# Altium footprint library Relay_THT.PcbLib: 78 footprints (part 3 of 5)
Each footprint in its own frame and in the unit in brackets; x right, y up, seen from the top. Pads: shape width x height; smd on the part's side, far side on the other; paste and mask are expansions set on the pad; w line width, h text height; cw(c..) or ccw(c..) is an arc to the next point about the centre after c.
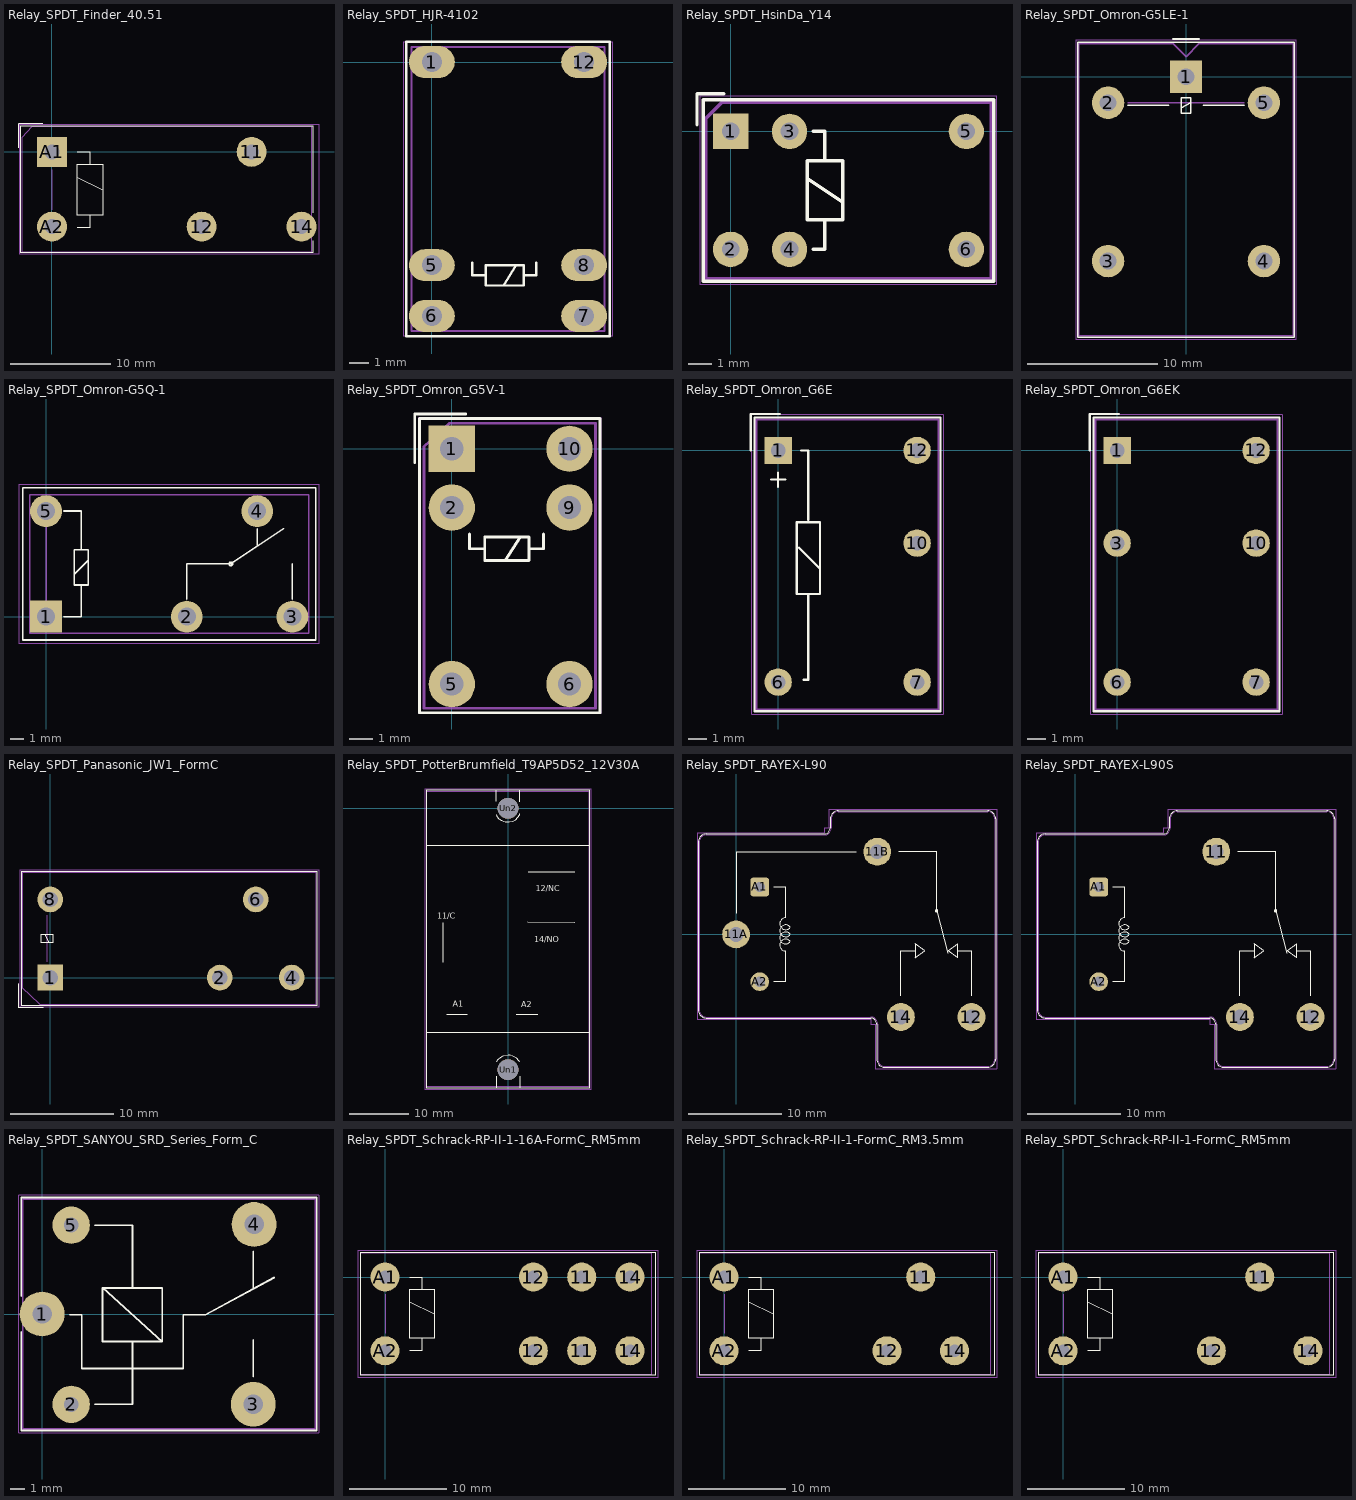
[diagram p2: the footprints below, top view; thin cyan lines are the x and y axes]

## Relay_SPDT_Finder_40.51 [mm]
pads (5):
  round 3 hole 1.5: 11(20,0) 12(15,-7.5) 14(25,-7.5) A2(0,-7.5)
  rect 3x3 hole 1.5: A1(0,0)
F.SilkS:
  lines w0.12: -3.3,0.4 -3.3,2.8 -0.9,2.8 ; 2.54,-7.62 3.81,-7.62 3.81,-6.35 ; 2.54,-2.54 5.08,-3.81 ; 2.54,0 3.81,0 3.81,-1.27 ; 26.1,-8.9 26.1,-10.1 -3.1,-10.1 -3.1,2.6 26.1,2.6 26.1,-6.1 ; 3.81,-1.27 2.54,-1.27 2.54,-6.35 5.08,-6.35 5.08,-1.27 3.81,-1.27
F.CrtYd:
  lines w0.05: -3.25,-10.25 -3.25,2.75 26.75,2.75 26.75,-10.25 -3.25,-10.25
F.Fab:
  lines w0.12: 0,-5.8 0,-1.8 ; -3,-10 26,-10 26,2.5 -2,2.5 -3,1.4 -3,-10
  text "'.Designator'" at 8.018,-4.65 h1

## Relay_SPDT_HJR-4102 [mm]
pads (6):
  rrect100% 2.3x1.6 hole 1: 1(0,0) 5(0,-10.16) 6(0,-12.7) 7(7.62,-12.7) 8(7.62,-10.16) 12(7.62,0)
F.SilkS:
  lines w0.12: 2.032,-10.033 2.032,-10.668 2.692,-10.668 ; 3.581,-11.176 4.216,-10.16 ; 4.597,-10.668 5.232,-10.668 5.232,-10.033 ; -1.27,-13.716 8.89,-13.716 8.89,1.016 -1.27,1.016 -1.27,-13.716 ; 2.692,-11.176 4.597,-11.176 4.597,-10.16 2.692,-10.16 2.692,-11.176
F.CrtYd:
  lines w0.05: -1.4,-13.71 9.02,-13.71 9.02,1.01 -1.4,1.01 -1.4,-13.71
F.Fab:
  lines w0.1: -1.016,-13.462 -1.016,0.762 8.636,0.762 8.636,-13.462 -1.016,-13.462
  text "'.Designator'" at -0.237,-7.19 h1

## Relay_SPDT_HsinDa_Y14 [mil]
pads (6):
  rect 60x60 hole 30: 1(0,0)
  round 60 hole 30: 2(0,-200) 3(100,0) 4(100,-200) 5(400,0) 6(400,-200)
F.SilkS:
  lines w5.91: -57,11.5 -57,64 -12,64 ; 130,-80 190,-120 ; 140,-200 160,-200 160,-150 ; 140,0 160,0 160,-50 ; -46.46,-253.94 -46.46,53.94 446.46,53.94 446.46,-253.94 -46.46,-253.94 ; 130,-150 190,-150 190,-50 130,-50 130,-150
F.CrtYd:
  lines w1.97: -51.97,-259.45 451.97,-259.45 451.97,59.45 -51.97,59.45 -51.97,-259.45
F.Fab:
  lines w5.91: -42.5,21.5 -15,49 ; -42.13,21.5 -42.13,-249.61 442.13,-249.61 442.13,49.61 -15,49.61
  text "'.Designator'" at 150.68,-133.08 h39.37

## Relay_SPDT_Omron-G5LE-1 [mm]
pads (5):
  rect 2.5x2.5 hole 1.3: 1(0,0)
  rrect100% 2.5x2.5 hole 1.3: 2(-6,-2) 3(-6,-14.2) 4(6,-14.2) 5(6,-2)
F.SilkS:
  lines w0.12: -4.5,-2.2 -1.35,-2.2 ; -1,2.91 1,2.91 ; -0.35,-2.4 0.35,-2 ; 1.35,-2.2 4.5,-2.2 ; -8.35,-20.05 8.35,-20.05 8.35,2.65 -8.35,2.65 -8.35,-20.05 ; -0.35,-2.8 -0.35,-1.6 0.35,-1.6 0.35,-2.8 -0.35,-2.8
F.CrtYd:
  lines w0.05: -8.5,-20.2 -8.5,2.8 8.5,2.8 8.5,-20.2 -8.5,-20.2
F.Fab:
  lines w0.1: -4.5,-2 4.5,-2 ; -8.25,-19.95 8.25,-19.95 8.25,2.55 1,2.55 0,1.55 -1,2.55 -8.25,2.55 -8.25,-19.95
  text "'.Designator'" at -4.047,-9.54 h1

## Relay_SPDT_Omron-G5Q-1 [mm]
pads (5):
  rect 2.3x2.3 hole 1.3: 1(0,0)
  round 2.3 hole 1.3: 2(10.16,0) 3(17.78,0) 4(15.24,7.62) 5(0,7.62)
F.SilkS:
  circle w0.12: c13.335,3.81 r0.127
  lines w0.12: 1.27,0 2.54,0 2.54,2.29 ; 1.27,7.62 2.54,7.62 2.54,4.83 ; 2.03,3.05 3.05,4.06 ; 10.16,1.27 10.16,3.81 13.335,3.81 17.145,6.35 ; 15.24,5.08 15.24,6.35 ; 17.78,1.27 17.78,3.81 ; 2.54,2.29 3.05,2.29 3.05,4.83 2.54,4.83 ; 2.54,2.29 2.03,2.29 2.03,4.83 2.54,4.83 ; -1.68,-1.69 -1.68,9.31 19.46,9.31 19.46,-1.69 -1.68,-1.69
F.CrtYd:
  lines w0.05: -1.95,-1.95 -1.95,9.55 19.7,9.55 19.7,-1.95 -1.95,-1.95
F.Fab:
  lines w0.1: 0,1 0,6.5 ; -1.18,-1.19 -1.18,8.81 18.96,8.81 18.96,-1.19 -1.18,-1.19
  text "'.Designator'" at 4.843,2.97 h1

## Relay_SPDT_Omron_G5V-1 [mm]
pads (6):
  rect 2x2 hole 1: 1(0,0)
  round 2 hole 1: 2(0,-2.54) 5(0,-10.16) 6(5.08,-10.16) 9(5.08,-2.54) 10(5.08,0)
F.SilkS:
  lines w0.12: -1.6,-0.6 -1.6,1.5 0.6,1.5 ; 0.762,-3.683 0.762,-4.318 1.422,-4.318 ; 2.311,-4.826 2.946,-3.81 ; 3.327,-4.318 3.962,-4.318 3.962,-3.683 ; -1.4,-11.4 6.4,-11.4 6.4,1.3 -1.4,1.3 -1.4,-11.4 ; 1.422,-4.826 1.422,-3.81 3.327,-3.81 3.327,-4.826 1.422,-4.826
F.CrtYd:
  lines w0.05: -1.45,-11.45 6.45,-11.45 6.45,1.35 -1.45,1.35 -1.45,-11.45
F.Fab:
  lines w0.12: -1.2,-11.2 -1.2,0.1 -0.1,1.1 6.2,1.1 6.2,-11.2 -1.2,-11.2
  text "'.Designator'" at -1.507,-7.19 h1

## Relay_SPDT_Omron_G6E [mil]
pads (5):
  rect 59.1x59.1 hole 31.5: 1(0,0)
  round 59.1 hole 31.5: 6(0,-500) 7(300,-500) 10(300,-200) 12(300,0)
F.SilkS:
  lines w4.72: -59.06,0 -59.06,78.74 3.94,78.74 ; -15.75,-62.99 15.75,-62.99 ; 0,-78.74 0,-47.24 ; 45,-210 90,-255 ; 50,0 65,0 65,-150 ; 55,-495 65,-495 65,-310 ; -51.18,-562.99 350.39,-562.99 350.39,70.87 -51.18,70.87 -51.18,-562.99 ; 40,-310 40,-155 90,-155 90,-310 40,-310
F.CrtYd:
  lines w1.97: -57.09,-568.9 356.3,-568.9 356.3,76.77 -57.09,76.77 -57.09,-568.9
F.Fab:
  lines w4.72: -47.24,-559.06 -47.24,66.93 346.46,66.93 346.46,-559.06 -47.24,-559.06
  text "'.Designator'" at -9.32,-283.08 h39.37

## Relay_SPDT_Omron_G6EK [mil]
pads (6):
  rect 59.1x59.1 hole 31.5: 1(0,0)
  round 59.1 hole 31.5: 3(0,-200) 6(0,-500) 7(300,-500) 10(300,-200) 12(300,0)
F.SilkS:
  lines w4.72: -59.06,0 -59.06,78.74 3.94,78.74 ; -51.18,-562.99 -51.18,70.87 350.39,70.87 350.39,-562.99 -51.18,-562.99
F.CrtYd:
  lines w1.97: -57.09,-568.9 -57.09,76.77 356.3,76.77 356.3,-568.9 -57.09,-568.9
F.Fab:
  lines w4.72: -47.24,-559.06 346.46,-559.06 346.46,66.93 -47.24,66.93 -47.24,-559.06
  text "'.Designator'" at -9.32,-283.08 h39.37

## Relay_SPDT_Panasonic_JW1_FormC [mm]
pads (5):
  rect 2.5x2.5 hole 1.5: 1(0,0)
  rrect100% 2.5x2.5 hole 1.5: 2(16.5,0) 4(23.5,0) 6(20,7.6) 8(0,7.6)
F.SilkS:
  lines w0.12: -3.04,-0.6 -3.04,-2.94 -0.7,-2.94 ; -0.5,4.15 -0.1,3.45 ; -2.8,-2.7 26,-2.7 26,10.3 -2.8,10.3 -2.8,-2.7 ; -0.9,3.45 -0.9,4.15 0.3,4.15 0.3,3.45 -0.9,3.45
F.CrtYd:
  lines w0.05: -2.95,-2.85 26.15,-2.85 26.15,10.45 -2.95,10.45 -2.95,-2.85
F.Fab:
  lines w0.1: -3.04,-0.6 -3.04,-2.94 -0.7,-2.94 ; -2.7,-1 -2.7,10.2 25.9,10.2 25.9,-2.6 -1,-2.6 ; -0.3,1.55 -0.3,6.05
  lines w0.12: -2.7,-1 -1,-2.6
  text "'.Designator'" at 7.553,2.96 h1

## Relay_SPDT_PotterBrumfield_T9AP5D52_12V30A [mm]
pads (2):
  round 3.5 hole 3.5: Un1(0,-43.998) Un2(0,0)
F.SilkS:
  lines w0.12: -13.749,-37.749 13.749,-37.749 ; -13.749,-6.248 13.749,-6.248 ; -11.001,-25.898 -11.001,-19.223 ; -10.274,-34.724 -6.825,-34.724 ; -1.976,-47 -1.976,-45.098 ; -1.976,-42.675 -1.75,-42.324 -1.3,-41.948 -0.851,-41.725 0.076,-41.6 0.376,-41.6 0.8,-41.725 1.45,-42.05 1.826,-42.474 1.976,-42.675 ; -1.976,-1.1 -1.9,-1.374 -1.549,-1.725 -1.125,-2.024 -0.45,-2.248 0.201,-2.273 0.826,-2.174 1.275,-1.923 1.674,-1.524 1.951,-1.123 1.999,-0.95 ; -1.976,1.201 -1.976,3.002 ; 1.425,-34.699 5.001,-34.699 ; 1.951,-45.098 1.976,-46.975 ; 1.976,1.1 1.976,3.002 ; 3.325,-19.2 3.35,-19.2 11.25,-19.223 ; 3.424,-10.775 11.275,-10.749 ; -13.749,-47 -13.749,3.002 13.749,3.002 13.749,-21.999 13.749,-47 -13.749,-47
  text "11/C" at -11.881,-18.57 h1
  text "A1" at -9.342,-33.398 h1
  text "A2" at 2.27,-33.449 h1
  text "12/NC" at 4.694,-13.995 h1
  text "14/NO" at 4.418,-22.52 h1
F.CrtYd:
  lines w0.05: -14,-47.25 -14,3.25 14,3.25 14,-47.25 -14,-47.25
F.Fab:
  lines w0.12: -13.7,-46.9 -13.6,-46.9 13.6,-46.9 13.6,2.9 -13.7,2.9 -13.7,-46.9
  text "'.Designator'" at -3.237,-22.671 h0.8

## Relay_SPDT_RAYEX-L90 [mm]
pads (6):
  round 3 hole 1.6: 11A(0,0) 11B(15.2,8.9) 12(25.34,-8.9) 14(17.74,-8.9)
  rrect25% 2x2 hole 1.1: A1(2.54,5.1)
  round 2 hole 1.1: A2(2.54,-5.1)
F.SilkS:
  circle w0.12: c21.59,2.54 r0.127
  lines w0.12: 0,2.286 0,8.9 12.954,8.9 ; 4.064,-5.105 5.334,-5.105 5.334,-1.778 cw(c5.334,-1.143) 5.842,-0.762 cw(c5.334,-0.381) 5.842,0 cw(c5.334,0.381) 5.842,0.762 cw(c5.334,1.143) 5.334,1.778 5.334,5.105 4.064,5.105 ; 17.526,8.9 21.59,8.9 21.59,2.54 22.809,-2.032 ; 17.74,-6.604 17.74,-1.778 19.304,-1.778 ; 23.876,-1.778 25.34,-1.778 25.34,-6.604 ; -4.07,-8.14 -4.07,9.94 cw(c-3.2,9.94) -3.2,10.81 9.48,10.81 ccw(c9.48,11.46) 10.13,11.46 10.13,12.44 cw(c11,12.44) 11,13.31 27.08,13.31 cw(c27.08,12.44) 27.95,12.44 27.95,-13.44 cw(c27.08,-13.44) 27.08,-14.31 16,-14.31 cw(c16,-13.44) 15.13,-13.44 15.13,-9.66 ccw(c14.48,-9.66) 14.48,-9.01 -3.2,-9.01 cw(c-3.2,-8.14) -4.07,-8.14 ; 19.304,-2.54 19.304,-1.016 20.32,-1.778 19.304,-2.54 ; 22.86,-1.778 23.876,-2.54 23.876,-1.016 22.86,-1.778
F.CrtYd:
  lines w0.05: -4.21,-9.15 -4.21,10.95 9.48,10.95 9.48,11.46 9.99,11.46 9.99,13.45 28.09,13.45 28.09,-14.45 14.99,-14.45 14.99,-9.66 14.48,-9.66 14.48,-9.15 -4.21,-9.15
F.Fab:
  lines w0.1: -3.96,-8.14 -3.96,9.94 cw(c-3.2,9.94) -3.2,10.7 9.48,10.7 ccw(c9.48,11.46) 10.24,11.46 10.24,12.44 cw(c11,12.44) 11,13.2 27.08,13.2 cw(c27.08,12.44) 27.84,12.44 27.84,-13.44 cw(c27.08,-13.44) 27.08,-14.2 16,-14.2 cw(c16,-13.44) 15.24,-13.44 15.24,-9.66 ccw(c14.48,-9.66) 14.48,-8.9 -3.2,-8.9 cw(c-3.2,-8.14) -3.96,-8.14
  text "'.Designator'" at 8.348,-0.84 h1

## Relay_SPDT_RAYEX-L90S [mm]
pads (5):
  round 3 hole 1.6: 11(15.2,8.9) 12(25.34,-8.9) 14(17.74,-8.9)
  rrect25% 2x2 hole 1.1: A1(2.54,5.1)
  round 2 hole 1.1: A2(2.54,-5.1)
F.SilkS:
  circle w0.12: c21.59,2.54 r0.127
  lines w0.12: 4.064,-5.105 5.334,-5.105 5.334,-1.778 cw(c5.334,-1.143) 5.842,-0.762 cw(c5.334,-0.381) 5.842,0 cw(c5.334,0.381) 5.842,0.762 cw(c5.334,1.143) 5.334,1.778 5.334,5.105 4.064,5.105 ; 17.526,8.9 21.59,8.9 21.59,2.54 22.809,-2.032 ; 17.74,-6.604 17.74,-1.778 19.304,-1.778 ; 23.876,-1.778 25.34,-1.778 25.34,-6.604 ; -4.07,-8.14 -4.07,9.94 cw(c-3.2,9.94) -3.2,10.81 9.48,10.81 ccw(c9.48,11.46) 10.13,11.46 10.13,12.44 cw(c11,12.44) 11,13.31 27.08,13.31 cw(c27.08,12.44) 27.95,12.44 27.95,-13.44 cw(c27.08,-13.44) 27.08,-14.31 16,-14.31 cw(c16,-13.44) 15.13,-13.44 15.13,-9.66 ccw(c14.48,-9.66) 14.48,-9.01 -3.2,-9.01 cw(c-3.2,-8.14) -4.07,-8.14 ; 19.304,-2.54 19.304,-1.016 20.32,-1.778 19.304,-2.54 ; 22.86,-1.778 23.876,-1.016 23.876,-2.54 22.86,-1.778
F.CrtYd:
  lines w0.05: -4.21,-9.15 14.48,-9.15 14.48,-9.66 14.99,-9.66 14.99,-14.45 28.09,-14.45 28.09,13.45 9.99,13.45 9.99,11.46 9.48,11.46 9.48,10.95 -4.21,10.95 -4.21,-9.15
F.Fab:
  lines w0.1: -3.96,-8.14 -3.96,9.94 cw(c-3.2,9.94) -3.2,10.7 9.48,10.7 ccw(c9.48,11.46) 10.24,11.46 10.24,12.44 cw(c11,12.44) 11,13.2 27.08,13.2 cw(c27.08,12.44) 27.84,12.44 27.84,-13.44 cw(c27.08,-13.44) 27.08,-14.2 16,-14.2 cw(c16,-13.44) 15.24,-13.44 15.24,-9.66 ccw(c14.48,-9.66) 14.48,-8.9 -3.2,-8.9 cw(c-3.2,-8.14) -3.96,-8.14
  text "'.Designator'" at 8.348,-0.84 h1

## Relay_SPDT_SANYOU_SRD_Series_Form_C [mm]
pads (5):
  round 3 hole 1.3: 1(0,0) 3(14.15,-6.05) 4(14.2,6)
  round 2.5 hole 1: 2(1.95,-6.05) 5(1.95,5.95)
F.SilkS:
  lines w0.12: -1.4,-1.2 -1.4,-7.8 18.4,-7.8 18.4,7.8 -1.4,7.8 -1.4,1.2 ; 1.85,-0.05 2.65,-0.05 2.65,-3.65 9.45,-3.65 9.45,-0.05 10.95,-0.05 15.55,2.45 ; 3.55,-6.05 6.05,-6.05 6.05,-1.85 ; 3.55,5.95 6.05,5.95 6.05,1.75 ; 14.15,-4.2 14.15,-1.75 ; 14.15,1.7 14.15,4.2 ; 4.05,1.75 8.05,1.75 8.05,-1.85 ; 4.05,1.75 8.05,-1.85 ; 4.05,1.75 4.05,-1.85 8.05,-1.85
F.CrtYd:
  lines w0.05: -1.55,-7.95 18.55,-7.95 18.55,7.95 -1.55,7.95 -1.55,-7.95
F.Fab:
  lines w0.12: -1.3,-7.7 -1.3,7.7 18.3,7.7 18.3,-7.7 -1.3,-7.7
  text "'.Designator'" at 3.053,-0.865 h1
  text "1" at -0.269,1.65 h1

## Relay_SPDT_Schrack-RP-II-1-16A-FormC_RM5mm [mm]
pads (8):
  round 3 hole 1.3: 11(20.32,-7.62) 11(20.32,0) 12(15.32,-7.62) 12(15.32,0) 14(25.32,-7.62) 14(25.32,0) A1(0,0) A2(0,-7.62)
F.SilkS:
  lines w0.12: 2.54,-7.62 3.81,-7.62 3.81,-6.35 ; 2.54,-2.54 5.08,-3.81 ; 2.54,0 3.81,0 3.81,-1.27 ; 3.81,-1.27 5.08,-1.27 5.08,-6.35 2.54,-6.35 2.54,-1.27 3.81,-1.27 ; -2.54,-10.16 -2.54,2.54 27.94,2.54 27.94,-10.16 -2.54,-10.16
F.CrtYd:
  lines w0.05: -2.8,-10.42 28.2,-10.42 28.2,2.78 -2.8,2.78 -2.8,-10.42
F.Fab:
  lines w0.12: 0,-5.8 0,-1.8 ; -2.5,-10.1 -2.5,2.5 27.5,2.5 27.5,-10.1 -2.5,-10.1
  text "'.Designator'" at 8.018,-4.65 h1

## Relay_SPDT_Schrack-RP-II-1-FormC_RM3.5mm [mm]
pads (5):
  round 3 hole 1.3: 11(20.32,0) 12(16.82,-7.62) 14(23.82,-7.62) A1(0,0) A2(0,-7.62)
F.SilkS:
  lines w0.12: 2.54,-7.62 3.81,-7.62 3.81,-6.35 ; 2.54,-2.54 5.08,-3.81 ; 2.54,0 3.81,0 3.81,-1.27 ; 3.81,-1.27 5.08,-1.27 5.08,-6.35 2.54,-6.35 2.54,-1.27 3.81,-1.27 ; -2.54,-10.16 -2.54,2.54 27.94,2.54 27.94,-10.16 -2.54,-10.16
F.CrtYd:
  lines w0.05: -2.8,-10.42 -2.8,2.78 28.2,2.78 28.2,-10.42 -2.8,-10.42
F.Fab:
  lines w0.12: 0,-5.8 0,-1.8 ; -2.5,-10.1 -2.5,2.5 27.5,2.5 27.5,-10.1 -2.5,-10.1
  text "'.Designator'" at 8.018,-4.65 h1

## Relay_SPDT_Schrack-RP-II-1-FormC_RM5mm [mm]
pads (5):
  round 3 hole 1.3: 11(20.32,0) 12(15.32,-7.62) 14(25.32,-7.62) A1(0,0) A2(0,-7.62)
F.SilkS:
  lines w0.12: 2.54,-7.62 3.81,-7.62 3.81,-6.35 ; 2.54,-2.54 5.08,-3.81 ; 2.54,0 3.81,0 3.81,-1.27 ; 3.81,-1.27 5.08,-1.27 5.08,-6.35 2.54,-6.35 2.54,-1.27 3.81,-1.27 ; -2.54,-10.16 27.94,-10.16 27.94,2.54 -2.54,2.54 -2.54,-10.16
F.CrtYd:
  lines w0.05: -2.8,-10.42 -2.8,2.78 28.2,2.78 28.2,-10.42 -2.8,-10.42
F.Fab:
  lines w0.12: 0,-5.8 0,-1.8 ; -2.5,-10.1 27.5,-10.1 27.5,2.5 -2.5,2.5 -2.5,-10.1
  text "'.Designator'" at 8.018,-4.65 h1